# EAGLE library part INA181A3IDBVR (library ruark2)
Current Sense Amplifier 1 Circuit Rail-to-Rail SOT-23-6
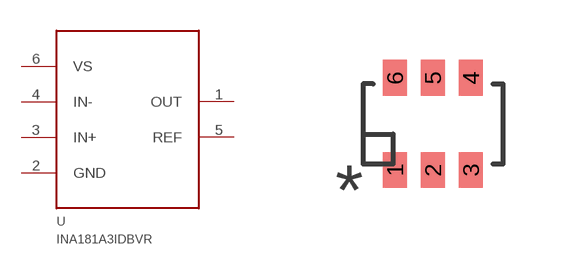
[diagram p44: symbol with the pads of SOT23-6; footprint SOT23-6]

Designator prefix U

## INA181A3IDBVR (PARTNO: 296-47658-1-ND)  [SOT23-6]
1  OUT
2  GND
3  IN+
4  IN-
5  REF
6  VS

## Footprint SOT23-6 (pad centres in mm)
smd 0.6 x 0.9: 1 -0.95,-1.15; 2 0,-1.15; 3 0.95,-1.15; 4 0.95,1.15; 5 0,1.15; 6 -0.95,1.15